# Altium schematic symbol library APSS Generic Components.SchLib: 14 symbols
Pins are listed as number, name and electrical type; pins without a type are passive.

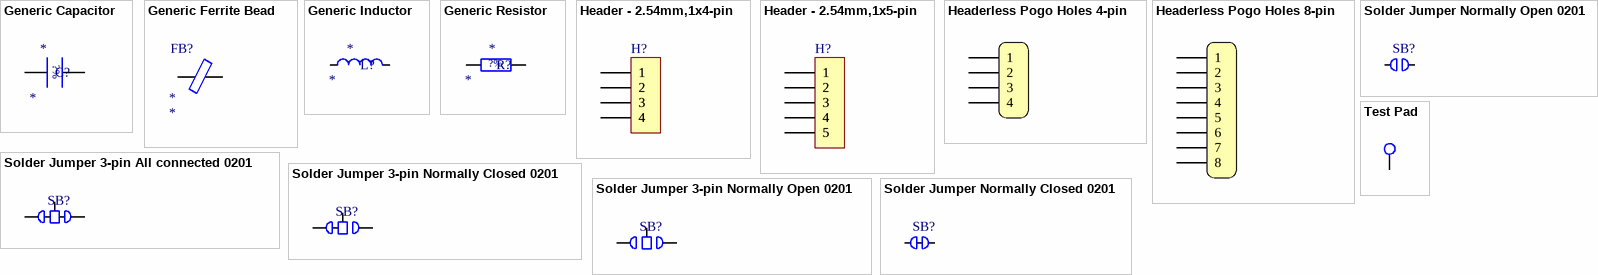
[diagram p0: symbols Generic Capacitor to Test Pad]

## Generic Capacitor
designator C?
Passive - Capacitor, Generic; Tolerance: ?%; MF Part No.: *; Value: *
pins: 1, 2

## Generic Ferrite Bead
designator FB?
Passive - Ferrite Bead, Generic; MF Part No.: *; Value: *
pins: 1, 2

## Generic Inductor
designator L?
Passive - Inductor, Generic; MF Part No.: *; Value: *
pins: 1, 2

## Generic Resistor
designator R?
Passive - Resistor, Generic; Tolerance: ?%; MF Part No.: *; Value: *
pins: 1, 2

## Header - 2.54mm,1x4-pin
designator H?  (value not drawn)  (no BOM)
footprint HEADER_2.54MM_1x4PIN
pins: 1, 1, 2, 2, 3, 3, 4, 4

## Header - 2.54mm,1x5-pin
designator H?  (value not drawn)  (no BOM)
footprint HEADER_2.54MM_1x5PIN
pins: 1, 1, 2, 2, 3, 3, 4, 4, 5, 5

## Headerless Pogo Holes 4-pin
designator H*  (value not drawn)  (no BOM)
footprint POGO_4_PIN_HEADER (4-pin header for pogo pins)
footprint POGO_4_PIN_HEADER_PADS (4-pin header for pogo pins. Two locating vias, the rest are pads)
pins: 1, 2, 3, 4

## Headerless Pogo Holes 8-pin
designator H*  (value not drawn)  (no BOM)
footprint POGO_8_PIN_HEADER (8-pin header for pogo pins)
footprint POGO_8_PIN_HEADER_PADS (8-pin header for pogo pins. Two locating vias, the rest are pads)
pins: 1, 2, 3, 4, 5, 6, 7, 8

## Solder Jumper 3-pin All connected 0201
designator SB?  (value not drawn)  (net tie, no BOM)
DEBUG: DEBUG
footprint Solder Bridge 3-pin All Shorted 0201
pins: 1 Common, 2, 3

## Solder Jumper 3-pin Normally Closed 0201
designator SB?, comment Solder Jumper 3-pin Left connected 0201  (value not drawn)  (net tie, no BOM)
DEBUG: DEBUG
footprint Solder Bridge 3-pin Left shorted 0201
pins: 1 Common, 2, 3

## Solder Jumper 3-pin Normally Open 0201
designator SB?  (value not drawn)  (no BOM)
DEBUG: DEBUG
footprint Solder Bridge 3-pin Open 0201
pins: 1 Common, 2, 3

## Solder Jumper Normally Closed 0201
designator SB?  (value not drawn)  (net tie, no BOM)
DEBUG: DEBUG
footprint Solder Bridge Closed 0201
pins: 1, 2

## Solder Jumper Normally Open 0201
designator SB?  (value not drawn)  (no BOM)
DEBUG: DEBUG
footprint Solder Bridge Open 0201
pins: 1, 2

## Test Pad
designator T*  (value not drawn)  (no BOM)
footprint Test Pad (Exposed copper pad)
pins: 1 0